# Altium schematic symbol library SKY66420-11.SchLib: 1 symbol
Pins are listed as number, name and electrical type; pins without a type are passive.

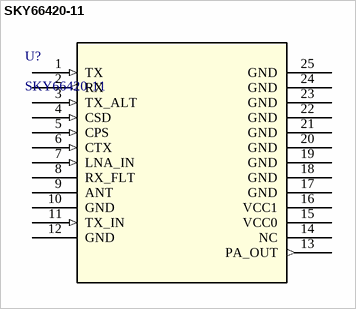
[diagram p0: symbol SKY66420-11]

## SKY66420-11
designator U?
Built for UNReLo. 860 to 930 MHz RF Front-End Module; Mfr_Name: Skyworks; Copyright: Copyright (C) 2022 Ultra Librarian. All rights reserved.; Manufacturer_Part_Number: SKY66420-11; Digi-Key_Part_Number_1: 863-2028-2-ND; Digi-Key_Part_Number_2: 863-2028-1-ND; Digi-Key_Part_Number_3: 863-2028-6-ND; RefDes: RefDes; Type: DEV
footprint MCM16_3X3X0P75_SKY
pins: 1 TX (in), 2 RX (out), 3 TX_ALT (in), 4 CSD (in), 5 CPS (in), 6 CTX (in), 7 LNA_IN (in), 8 RX_FLT, 9 ANT, 10 GND, 11 TX_IN (in), 12 GND, 13 PA_OUT (out), 14 NC, 15 VCC0 (power), 16 VCC1 (power), 17 GND, 18 GND, 19 GND, 20 GND, 21 GND, 22 GND, 23 GND, 24 GND, 25 GND